# Altium schematic symbol library Schlib1-GATE-DRV-SMPS-1.SchLib: 26 symbols
Pins are listed as number, name and electrical type; pins without a type are passive.

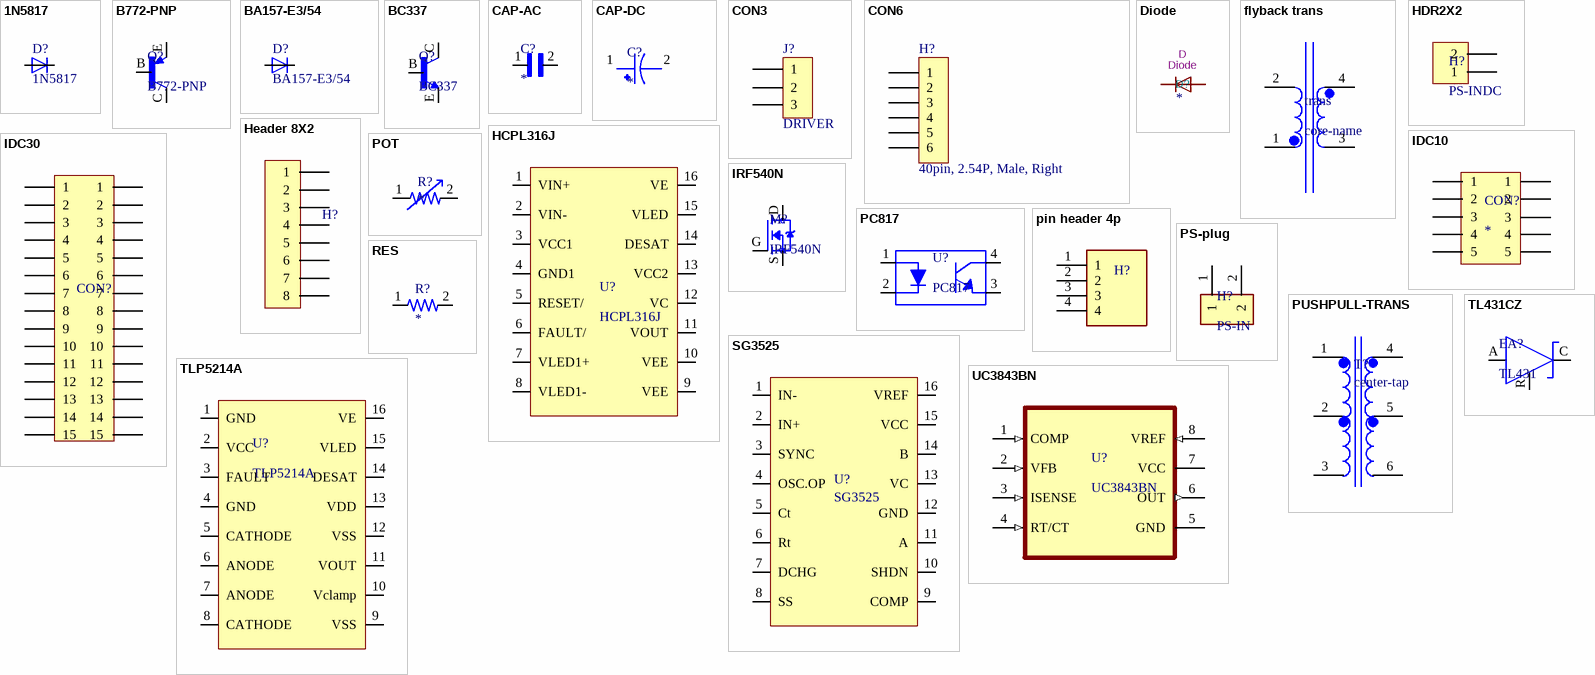
[diagram p0: symbols 1N5817 to UC3843BN]

## 1N5817
designator D?
Lite-On 1N5817, Schottky Diode, 20V 3A, 2-Pin DO-201AD; Manufacturer: Vishay; Manufacturer Part Number: 1N5820; Forward Voltage: 850mV; Element Configuration: Single; Peak Non-Repetitive Surge Current: 80A; Max Reverse Current: 150uA; Max Reverse Leakage Current: 2mA; Supplier 1: RSComponents; Supplier Part Number 1: 700-9899; Stock 1: 0; Mount: Through Hole; Case/Package: DO-201AD; Number of Pins: 2; Min Operating Temperature: -65°C; Max Operating Temperature: 125°C; Forward Current: 3A; Packaging: Bulk; Max Repetitive Reverse Voltage (Vrrm): 20V; Max Surge Current: 80A; Max Forward Surge Current (Ifsm): 80A; Average Rectified Current: 3A; Length: 9.5mm; Width: 5.3mm; Height: 5.3mm; Radiation Hardening: No; RoHS Compliant: No; ComponentLink1URL: http://www.liteon-semi.com/download.php?hSFile=1N5820-1N5822-5.pdf&hDFile=tecfile01312524214.pdf&src-supplier=Avnet+Asia; ComponentLink1Description: http://www.liteon-semi.com/download.php?hSFile=1N5820-1N5822-5.pdf&hDFile=tecfile01312524214.pdf&src-supplier=Avnet+Asia; ComponentLink2URL: http://docs-usa.electrocomponents.com/techlib:/itc_doclist_US.htm?stockno=7009899&src-supplier=Allied+Electronics; ComponentLink2Description: http://docs-usa.electrocomponents.com/techlib:/itc_doclist_US.htm?stockno=7009899&src-supplier=Allied+Electronics
footprint DO41-1
footprint 1N5817W
pins: A, C

## B772-PNP
designator Q?
footprint TO-92A - duplicate (TO, Flat Index; 3 In-Line, Axial Leads; Body Dia. 4.5mm; Leads 0.51 x 0.48 mm (max))
footprint b772_smd
pins: B, C, E

## BA157-E3/54
designator D?
Diode 400V 1A Fast Switching DO-204AL; Manufacturer: Vishay Semiconductors; Element Configuration: Single; Max Surge Current: 20A; Recovery Time: 150ns; Max Reverse Current: 5uA; Forward Voltage: 1.3V; Supplier 1: Mouser; Supplier Part Number 1: 625-BA157-E3; Manufacturer Part Number: BA157-E3/54; Stock 1: 18564; Pricing 1: 1=0.27, 10=0.226, 50=0.226, 100=0.12, 500=0.079, 1000=0.054, 2500=0.043, 5500=0.035, 10000=0.035, 22000=0.033, 49500=0.03 (USD); Mount: Through Hole; Case/Package: DO-204AL; Number of Pins: 2; Contact Plating: Tin,Matte; Min Operating Temperature: -65°C; Max Operating Temperature: 125°C; Packaging: Tape and Reel; Max Repetitive Reverse Voltage (Vrrm): 400V; Package Quantity: 1; Reverse Recovery Time: 150ns; Reverse Voltage: 400V; Peak Non-Repetitive Surge Current: 20A; Average Rectified Current: 1A; Max Reverse Voltage (DC): 400V; Forward Current: 1A; Reverse Recovery Time-Max: 150ns; Radiation Hardening: No; RoHS Compliant: Yes; Lead Free: Lead Free; ComponentLink1URL: http://www.vishay.com/docs/88536/ba157.pdf?src-supplier=Newark; ComponentLink1Description: http://www.vishay.com/docs/88536/ba157.pdf?src-supplier=Newark; ComponentLink2URL: http://www.vishay.com/docs/88536/ba157.pdf?src-supplier=Avnet; ComponentLink2Description: http://www.vishay.com/docs/88536/ba157.pdf?src-supplier=Avnet; ComponentLink3URL: http://components.arrow.com/part/dataview/42811334S9655183N5680?src-supplier=Arrow+Electronics; ComponentLink3Description: http://components.arrow.com/part/dataview/42811334S9655183N5680?src-supplier=Arrow+Electronics; ComponentLink4URL: http://www.vishay.com/docs/88536/ba157.pdf?src-supplier=Future+Electronics; ComponentLink4Description: http://www.vishay.com/docs/88536/ba157.pdf?src-supplier=Future+Electronics; ComponentLink5URL: http://www.vishay.com/docs/88536/ba157.pdf?src-supplier=Avnet+Europe; ComponentLink5Description: http://www.vishay.com/docs/88536/ba157.pdf?src-supplier=Avnet+Europe
footprint P1-10
pins: A, C

## BC337
designator Q?
footprint TO-92A (TO, Flat Index; 3 In-Line, Axial Leads; Body Dia. 4.5mm; Leads 0.51 x 0.48 mm (max))
pins: B, C, E

## CAP-AC
designator C?
footprint C200
footprint CAP_1206
footprint 0603_cap (SMD Mono-color Chip LED, body 1.6x0.8mm)
pins: 1, 2

## CAP-DC
designator C?
footprint CAP-1.5
footprint CAP_1206
footprint WCAP-ASLI_D6.3H7.7 (Aluminium Electrolytic V-Chip SMT Capacitors, 6.3x7.7mm)
footprint 0603_cap (SMD Mono-color Chip LED, body 1.6x0.8mm)
footprint WCAP-ASLI_D5H5.5 (Aluminium Electrolytic V-Chip SMT Capacitors, 5x5.5mm)
footprint WCAP-CSST_0805_L2W1.25H1.25 (Soft Termination MLCC, body 2.00x1.25mm)
pins: 1, 2

## CON3
designator J?, comment DRIVER
Connector; note: SC; SMD/TH: TH
footprint TB3 (Terminal Block Straight)
footprint IDC10-POWER
pins: 1, 2, 3

## CON6
designator H?, comment 40pin, 2.54P, Male, Right
6Pin_pinHeader; SMD/TH: TH; DPM/VM/AM: DPM, VM, AM
footprint SIP6
pins: 1, 2, 3, 4, 5, 6

## Diode
designator D?  value Diode  Reference: D
Datasheet: https://diotec.com/de/produktliste/D.html; ki_keywords: Diode; ki_description: Diode
footprint us1k_smd
pins: A, K

## flyback trans
designator trans, comment core-name
footprint C055928A
footprint Transformer_2
pins: 1, 2, 3, 4

## HCPL316J
designator U?
footprint SO16 - W
pins: 1 VIN+, 2 VIN-, 3 VCC1, 4 GND1, 5 RESET/, 6 FAULT/, 7 VLED1+, 8 VLED1-, 9 VEE, 10 VEE, 11 VOUT, 12 VC, 13 VCC2, 14 DESAT, 15 VLED, 16 VE

## HDR2X2
designator H?, comment PS-INDC
footprint HDR2X2
pins: 1, 2

## Header 8X2
designator H?, comment H2*8  (value not drawn)
footprint HDR2X8 (Connector; Header; 4x2 Position)
pins: 1, 2, 3, 4, 5, 6, 7, 8

## IDC10
designator CON?
footprint IDC10-CONTROL
pins: 1, 1, 2, 2, 3, 3, 4, 4, 5, 5

## IDC30
designator CON?  (value not drawn)
footprint IDC30
pins: 1, 1, 2, 2, 3, 3, 4, 4, 5, 5, 6, 6, 7, 7, 8, 8, 9, 9, 10, 10, 11, 11, 12, 12, 13, 13, 14, 14, 15, 15

## IRF540N
designator M?
Mosfet, Power; N-ch; Vdss 100V; Rds(on) 44MILLIOHMS; Id 33A; TO-220AB; Pd 130W; -55DEG; Manufacturer: International Rectifier; Gate to Source Voltage (Vgs): 20V; Number of Elements: 1; Supplier 1: Future Electronics; Supplier Part Number 1: IRF540NPBF-TUBE; Manufacturer Part Number: IRF540N; Stock 1: 0; Mount: Through Hole; Case/Package: TO-220AB; Number of Pins: 3; Min Operating Temperature: -55°C; Max Operating Temperature: 175°C; Continuous Drain Current (ID): 33A; Power Dissipation: 130W; RoHS Compliant: No; ComponentLink1URL: http://www.produktinfo.conrad.com/datenblaetter/150000-174999/162412-da-01-en-IRF_540_N.pdf?src-supplier=Conrad; ComponentLink1Description: http://www.produktinfo.conrad.com/datenblaetter/150000-174999/162412-da-01-en-IRF_540_N.pdf?src-supplier=Conrad
footprint TO254P1054X469X2933-3
footprint IRF540N_smd
pins: D, G, S

## PC817
designator U?
Optocoupler DC-IN 1-CH Transistor DC-OUT 4-Pin PDIP Sleeve; Manufacturer: Sharp; Reverse Breakdown Voltage: 6V; Forward Voltage: 1.4V; Forward Current: 50mA; Rise Time: 18000ns; Number of Elements: 1; Power Dissipation: 200mW; Collector Emitter Saturation Voltage: 200mV; Collector Emitter Voltage (VCEO): 35V; Input Type: DC; Current Transfer Ratio: 600%; Supplier 1: Arrow Electronics; Supplier Part Number 1: PC817; Manufacturer Part Number: PC817; Stock 1: 0; Mount: Through Hole; Case/Package: PDIP; Number of Pins: 4; Min Operating Temperature: -30°C; Max Operating Temperature: 100°C; Fall Time: 18000ns; Packaging: Sleeve; RoHS Compliant: No
footprint DIP762W50P254L650H458Q4B
footprint pc816_smd
pins: 1, 2, 3, 4

## pin header 4p
designator H?  (value not drawn)
Manufacturer: TE Connectivity AMP; Manufacturer Part Number: 2355186-4; Supplier 1: Digi-Key; Supplier Part Number 1: 17-2355186-4-ND; Stock 1: 5950; Pricing 1: 1=0.84, 10=0.708, 100=0.6356, 500=0.52, 1000=0.46222, 5000=0.40444, 10000=0.38518 (USD)
footprint SIP4
pins: 1, 2, 3, 4

## POT
designator R?
footprint POT
pins: 1, 2

## PS-plug
designator H?, comment PS-IN
footprint TB2 - V (Terminal Block Vertical)
footprint plug (5.00mm - Open Vertical PCB Header - 02p)
pins: 1, 2

## PUSHPULL-TRANS
designator T?, comment center-tap
footprint PUSHPULL-TRANS
pins: 1, 2, 3, 4, 5, 6

## RES
designator R?
footprint R3_v
footprint RES_1206
footprint 0603_Res (SMD Mono-color Chip LED, body 1.6x0.8mm)
footprint R3
pins: 1, 2

## SG3525
designator U?
footprint SG3525
pins: 1 IN-, 2 IN+, 3 SYNC, 4 OSC.OP, 5 Ct, 6 Rt, 7 DCHG, 8 SS, 9 COMP, 10 SHDN, 11 A, 12 GND, 13 VC, 14 B, 15 VCC, 16 VREF

## TL431CZ
designator EA?, comment TL431
V-Ref Adjustable 2.495V to 36V 100mA 3-Pin TO-92 Bulk; Manufacturer: STMicroelectronics; Manufacturer Part Number: TL431CZ; Max Input Voltage: 37V; Tolerance: 2.21%; Cathode Current: 1mA; Temperature Coefficient: 100ppm/°C; Reference Type: Shunt,Adjustable; Number of Channels: 1; Accuracy: 2%; Supplier 1: Arrow Electronics; Supplier Part Number 1: TL431CZ; Stock 1: 5333; Pricing 1: 1=0.4405, 10=0.3422, 100=0.2291, 500=0.1883, 1000=0.1722, 2500=0.1137, 10000=0.083, 1=0.3921, 10=0.3046, 100=0.2039, 500=0.1676, 1000=0.1299, 2500=0.1012, 10000=0.0723 (USD); Mount: Through Hole; Case/Package: TO-92; Number of Pins: 3; Weight: 0.01lb; Min Operating Temperature: 0°C; Max Operating Temperature: 70°C; Output Voltage: 36V; Max Output Current: 100mA; Packaging: Bulk; Package Quantity: 1; Output Current: 100mA; Max Output Voltage: 36V; Reference Voltage: 36V; Min Output Voltage: 2.495V; Output Type: Adjustable; Series: -; Nominal Supply Current: 1mA; Supply Current: 1mA; Length: 4.7mm; Width: 3.7mm; Height: 4.4mm; Radiation Hardening: No; REACH SVHC: No SVHC; Lead Free: Lead Free; RoHS Compliant: Yes; ComponentLink1URL: http://www.st.com/web/en/resource/technical/document/datasheet/CD00000986.pdf?src-supplier=Digi-Key; ComponentLink1Description: http://www.st.com/web/en/resource/technical/document/datasheet/CD00000986.pdf?src-supplier=Digi-Key; ComponentLink2URL: http://www.st.com/content/ccc/resource/technical/document/datasheet/2d/27/af/41/03/e2/44/8e/CD00000986.pdf/files/CD00000986.pdf/jcr:content/translations/en.CD00000986.pdf?src-supplier=Digi-Key; ComponentLink2Description: http://www.st.com/content/ccc/resource/technical/document/datasheet/2d/27/af/41/03/e2/44/8e/CD00000986.pdf/files/CD00000986.pdf/jcr:content/translations/en.CD00000986.pdf?src-supplier=Digi-Key; ComponentLink3URL: http://www.farnell.com/datasheets/1690313.pdf?src-supplier=Element14; ComponentLink3Description: http://www.farnell.com/datasheets/1690313.pdf?src-supplier=Element14; ComponentLink4URL: http://www.rapidonline.com/pdf/82-0290.pdf?src-supplier=Rapid+Electronics; ComponentLink4Description: http://www.rapidonline.com/pdf/82-0290.pdf?src-supplier=Rapid+Electronics; ComponentLink5URL: https://www.verical.com/server-webapp/html/getDatasheet?partID=98639&src-supplier=Verical; ComponentLink5Description: https://www.verical.com/server-webapp/html/getDatasheet?partID=98639&src-supplier=Verical; ComponentLink6URL: http://www.produktinfo.conrad.com/datenblaetter/150000-174999/155641-da-01-en-SPG_REF_TL431CZ_STM.pdf?src-supplier=Conrad; ComponentLink6Description: http://www.produktinfo.conrad.com/datenblaetter/150000-174999/155641-da-01-en-SPG_REF_TL431CZ_STM.pdf?src-supplier=Conrad
footprint TL431-T092
footprint VREG_TL431IPK
footprint TLP431_smd
pins: A 23, C 22, R 24

## TLP5214A
designator U?
footprint SO16 - W
pins: 1 GND, 2 VCC, 3 FAULT, 4 GND, 5 CATHODE, 6 ANODE, 7 ANODE, 8 CATHODE, 9 VSS, 10 Vclamp, 11 VOUT, 12 VSS, 13 VDD, 14 DESAT, 15 VLED, 16 VE

## UC3843BN
designator U?
IC REG CTRLR BST/FLYBK 8-MINIDIP; Manufacturer: STMicroelectronics; Max Supply Voltage: 30V; Output Current: 1A; Rise Time: 50ns; Number of Outputs: 1; Switching Frequency: 500kHz; Output Voltage: 5.1V; Duty Cycle: 100%; Topology: Boost,Flyback; Frequency: 250kHz; Min Supply Voltage: 12V; Max Supply Current: 17mA; Power Dissipation: 800mW; Supplier 1: Arrow Electronics; Supplier Part Number 1: UC3843BN; Manufacturer Part Number: UC3843BN; Stock 1: 669; Pricing 1: 1=0.9063, 10=0.7523, 25=0.7389, 100=0.6172, 250=0.5737, 500=0.4903, 1000=0.3493, 4000=0.3129, 5000=0.3123, 6000=0.3104, 8000=0.3085, 10000=0.3066, 20000=0.3047, 25000=0.3027, 30000=0.3008, 50000=0.2988 (USD); Mount: Through Hole; Case/Package: PDIP; Number of Pins: 8; Weight: 0.032805oz; Min Operating Temperature: -40°C; Max Operating Temperature: 150°C; Package Quantity: 50; Packaging: Rail/Tube; Max Frequency: 500kHz; Max Duty Cycle: 100%; Fall Time: 50ns; Series: -; Max Power Dissipation: 800mW; Length: 10.92mm; Width: 6.6mm; Height: 3.32mm; Radiation Hardening: No; Lead Free: Lead Free; RoHS Compliant: Yes; REACH SVHC: No SVHC; ComponentLink1URL: http://www.st.com/content/ccc/resource/technical/document/datasheet/b6/e8/cc/ba/4f/cd/42/9b/CD00000966.pdf/files/CD00000966.pdf/jcr:content/translations/en.CD00000966.pdf?src-supplier=Digi-Key; ComponentLink1Description: http://www.st.com/content/ccc/resource/technical/document/datasheet/b6/e8/cc/ba/4f/cd/42/9b/CD00000966.pdf/files/CD00000966.pdf/jcr:content/translations/en.CD00000966.pdf?src-supplier=Digi-Key; ComponentLink2URL: http://www.mouser.com/ds/2/389/uc2842b-974450.pdf?src-supplier=Mouser; ComponentLink2Description: http://www.mouser.com/ds/2/389/uc2842b-974450.pdf?src-supplier=Mouser; ComponentLink3URL: http://www.st.com/web/en/resource/technical/document/datasheet/CD00000966.pdf?src-supplier=Avnet; ComponentLink3Description: http://www.st.com/web/en/resource/technical/document/datasheet/CD00000966.pdf?src-supplier=Avnet; ComponentLink4URL: http://www.st.com/web/en/resource/technical/document/datasheet/CD00000966.pdf?src-supplier=Future+Electronics; ComponentLink4Description: http://www.st.com/web/en/resource/technical/document/datasheet/CD00000966.pdf?src-supplier=Future+Electronics; ComponentLink5URL: https://www.verical.com/server-webapp/html/getDatasheet?partID=66041&src-supplier=Verical; ComponentLink5Description: https://www.verical.com/server-webapp/html/getDatasheet?partID=66041&src-supplier=Verical; ComponentLink6URL: http://www.produktinfo.conrad.com/datenblaetter/1100000-1199999/001185662-da-01-en-IC_REG_CTRLR_PWM_CM_UC3843BN_DIP_8_STM.pdf?src-supplier=Conrad; ComponentLink6Description: http://www.produktinfo.conrad.com/datenblaetter/1100000-1199999/001185662-da-01-en-IC_REG_CTRLR_PWM_CM_UC3843BN_DIP_8_STM.pdf?src-supplier=Conrad
footprint DIP794W45P254L959H508Q8
footprint uc3843_smd
pins: 1 COMP (in), 2 VFB (in), 3 ISENSE (in), 4 RT/CT (in), 5 GND (power), 6 OUT (out), 7 VCC (power), 8 VREF (in)